# EAGLE library part CP2105 (library Silabs_Exo)
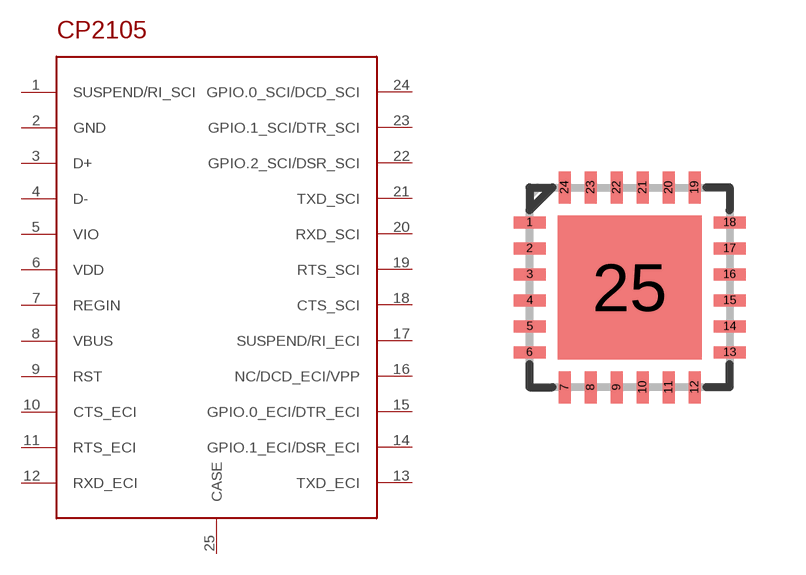
[diagram p0: symbol with the pads of QFN24; footprint QFN24]

Designator prefix -

## CP2105  [QFN24]
1  SUSPEND/RI_SCI
2  GND
3  D+
4  D-
5  VIO
6  VDD
7  REGIN
8  VBUS
9  RST
10  CTS_ECI
11  RTS_ECI
12  RXD_ECI
13  TXD_ECI
14  GPIO.1_ECI/DSR_ECI
15  GPIO.0_ECI/DTR_ECI
16  NC/DCD_ECI/VPP
17  SUSPEND/RI_ECI
18  CTS_SCI
19  RTS_SCI
20  RXD_SCI
21  TXD_SCI
22  GPIO.2_SCI/DSR_SCI
23  GPIO.1_SCI/DTR_SCI
24  GPIO.0_SCI/DCD_SCI
25  CASE

## Footprint QFN24 (pad centres in mm)
smd 0.8 x 0.3: 1 -2.5,1.625; 2 -2.5,0.975; 3 -2.5,0.325; 4 -2.5,-0.325; 5 -2.5,-0.975; 6 -2.5,-1.625; 13 2.5,-1.625; 14 2.5,-0.975; 15 2.5,-0.325; 16 2.5,0.325; 17 2.5,0.975; 18 2.5,1.625
smd 0.3 x 0.8: 7 -1.625,-2.5; 8 -0.975,-2.5; 9 -0.325,-2.5; 10 0.325,-2.5; 11 0.975,-2.5; 12 1.625,-2.5; 19 1.625,2.5; 20 0.975,2.5; 21 0.325,2.5; 22 -0.325,2.5; 23 -0.975,2.5; 24 -1.625,2.5
smd 3.6 x 3.6: 25 0,0